# EAGLE library part RICKK2_BME280 (library FeatherBME280)
https://www.digikey.com/product-detail/en/bosch-sensortec/BME280/828-1063-1-ND/6136314
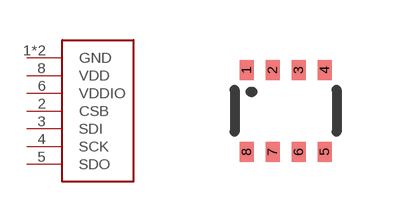
[diagram p1: symbol with the pads of RICKK2_BME280; footprint RICKK2_BME280]

Designator prefix -

## RICKK2_BME280  [RICKK2_BME280]
1  GND  pwr
2  CSB  in
3  SDI
4  SCK  in
5  SDO
6  VDDIO  pwr
7  GND  pwr
8  VDD  pwr

## Footprint RICKK2_BME280 (pad centres in mm)
smd 0.35 x 0.5: 1 0,0; 2 0.65,0; 3 1.3,0; 4 1.95,0; 5 1.95,-2.05; 6 1.3,-2.05; 7 0.65,-2.05; 8 0,-2.05